# Altium schematic symbol library TLV74133PDBVR.SchLib: 1 symbol
Pins are listed as number, name and electrical type; pins without a type are passive.

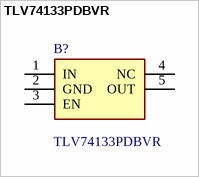
[diagram p0: symbol TLV74133PDBVR]

## TLV74133PDBVR
designator B?
150mA Low-Dropout (LDO) Regulator With Foldback Current Limit for Portable Devices; Manufacturer_Name: Texas Instruments; Geometry.Height: 1.45mm; Mouser Part Number: 595-TLV74133PDBVR; Mouser Price/Stock: https://www.mouser.co.uk/ProductDetail/Texas-Instruments/TLV74133PDBVR?qs=EU6FO9ffTwd%252Bkie4AO1Iww%3D%3D; Manufacturer_Part_Number: TLV74133PDBVR; Datasheet Link: http://www.ti.com/lit/gpn/tlv741p
footprint SOT95P280X145-5N
pins: 1 IN, 2 GND, 3 EN, 4 NC, 5 OUT